# Altium footprint library QFP_Shrink_Sq_40P_Side_L.PcbLib: 26 footprints (part 1 of 3)
Each footprint in its own frame and in the unit in brackets; x right, y up, seen from the top. Pads: shape width x height; smd on the part's side, far side on the other; paste and mask are expansions set on the pad; w line width, h text height; cw(c..) or ccw(c..) is an arc to the next point about the centre after c.
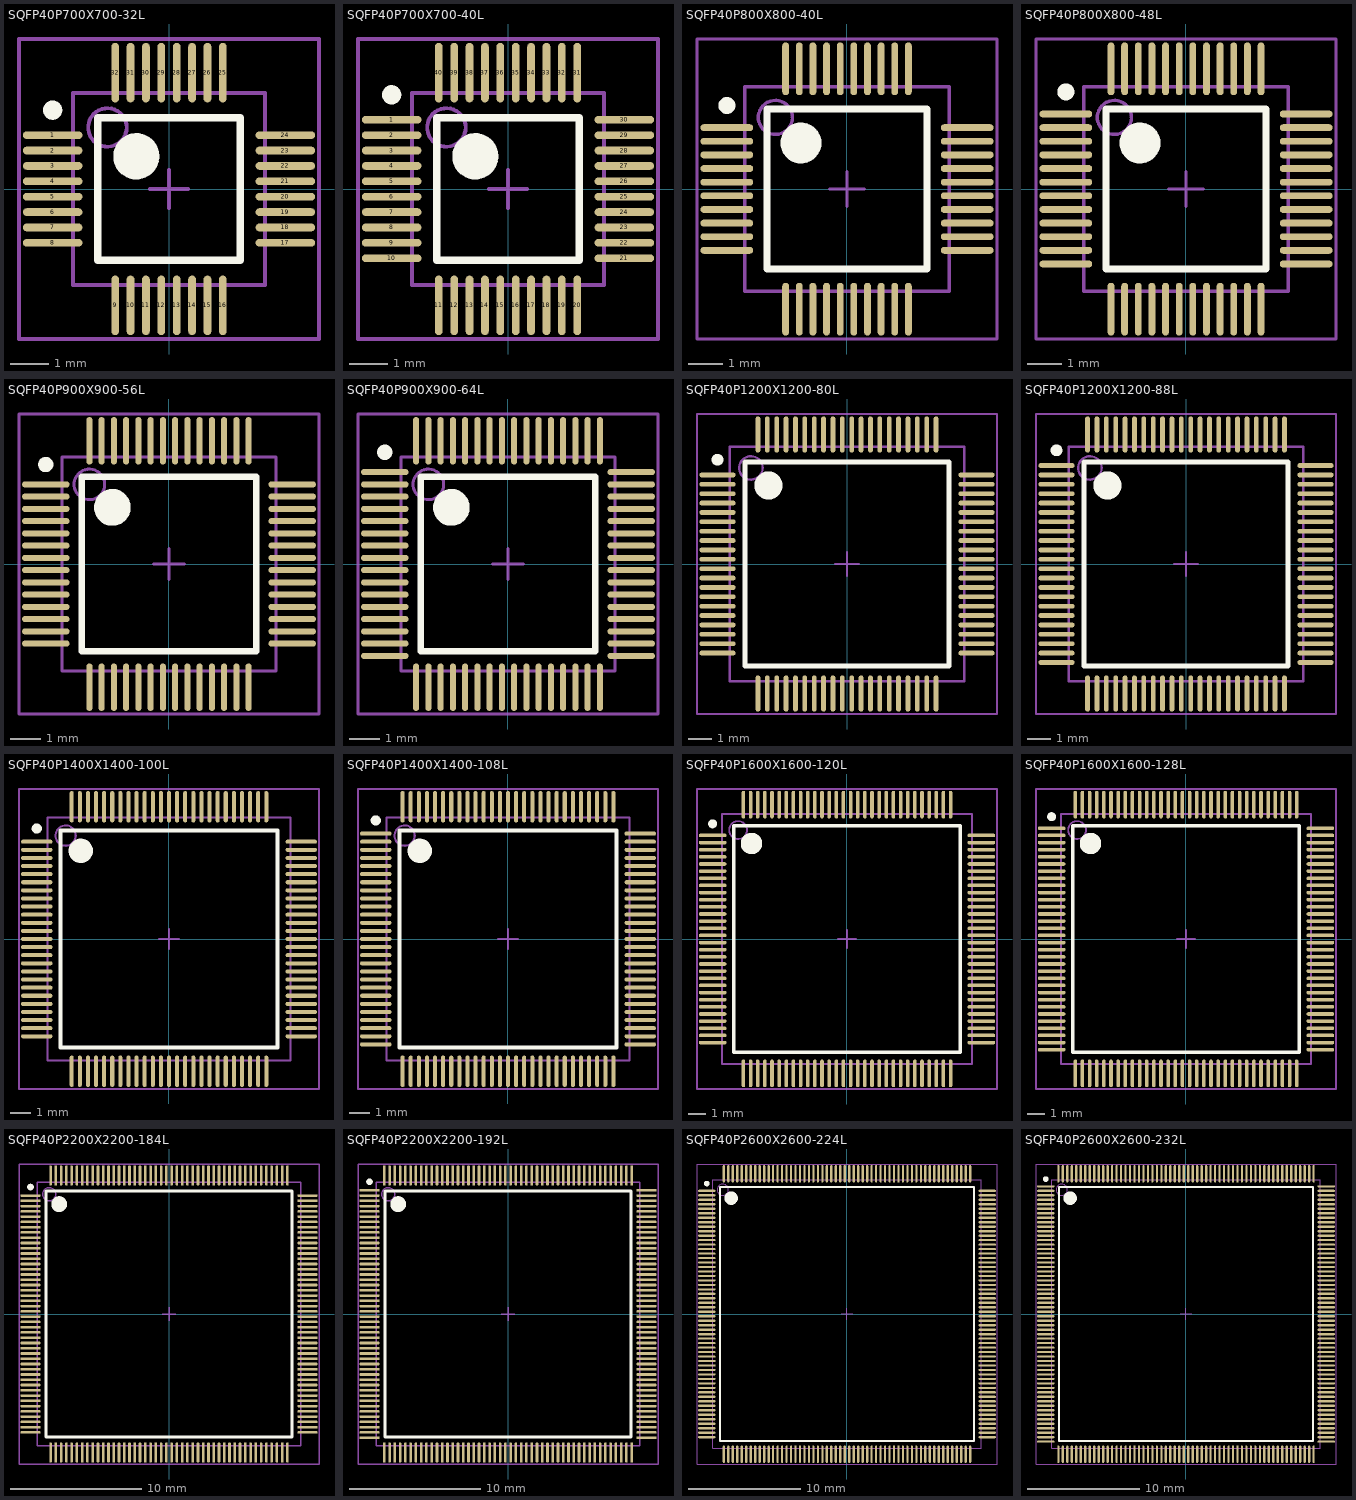
[diagram p0: the footprints below, top view; thin cyan lines are the x and y axes]

## SQFP40P700X700-32L [mm] "Shrink QFP, 32-Leads, Body 5x5mm, Pitch 0.4mm, IPC High Density"
height 1.7
pads (32):
  oval 1.55x0.2 smd: 1(-3.025,1.4) 2(-3.025,1) 3(-3.025,0.6) 4(-3.025,0.2) 5(-3.025,-0.2) 6(-3.025,-0.6) 7(-3.025,-1) 8(-3.025,-1.4) 17(3.025,-1.4) 18(3.025,-1) 19(3.025,-0.6) 20(3.025,-0.2) 21(3.025,0.2) 22(3.025,0.6) 23(3.025,1) 24(3.025,1.4)
  oval 0.2x1.55 smd: 9(-1.4,-3.025) 10(-1,-3.025) 11(-0.6,-3.025) 12(-0.2,-3.025) 13(0.2,-3.025) 14(0.6,-3.025) 15(1,-3.025) 16(1.4,-3.025) 25(1.4,3.025) 26(1,3.025) 27(0.6,3.025) 28(0.2,3.025) 29(-0.2,3.025) 30(-0.6,3.025) 31(-1,3.025) 32(-1.4,3.025)
Top Overlay:
  circle w0.6: c-0.85,0.85 r0.3
  circle w0.25: c-3.025,2.05 r0.125
  lines w0.2: -1.85,-1.85 1.85,-1.85 1.85,1.85 -1.85,1.85 -1.85,-1.85
Mechanical 13:
  circle w0.1: c-1.6,1.6 r0.5
  lines w0.1: -2.5,-2.5 2.5,-2.5 2.5,2.5 -2.5,2.5 -2.5,-2.5
Mechanical 15:
  lines w0.1: -0.5,0 0.5,0 ; 0,-0.5 0,0.5 ; -3.9,-3.9 3.9,-3.9 3.9,3.9 -3.9,3.9 -3.9,-3.9
3D body: height 1.7, standoff 0, extent -2.5,-2.5 2.5,2.5

## SQFP40P700X700-40L [mm] "Shrink QFP, 40-Leads, Body 5x5mm, Pitch 0.4mm, IPC High Density"
height 1.7
pads (40):
  oval 1.55x0.2 smd: 1(-3.025,1.8) 2(-3.025,1.4) 3(-3.025,1) 4(-3.025,0.6) 5(-3.025,0.2) 6(-3.025,-0.2) 7(-3.025,-0.6) 8(-3.025,-1) 9(-3.025,-1.4) 10(-3.025,-1.8) 21(3.025,-1.8) 22(3.025,-1.4) 23(3.025,-1) 24(3.025,-0.6) 25(3.025,-0.2) 26(3.025,0.2) 27(3.025,0.6) 28(3.025,1) 29(3.025,1.4) 30(3.025,1.8)
  oval 0.2x1.55 smd: 11(-1.8,-3.025) 12(-1.4,-3.025) 13(-1,-3.025) 14(-0.6,-3.025) 15(-0.2,-3.025) 16(0.2,-3.025) 17(0.6,-3.025) 18(1,-3.025) 19(1.4,-3.025) 20(1.8,-3.025) 31(1.8,3.025) 32(1.4,3.025) 33(1,3.025) 34(0.6,3.025) 35(0.2,3.025) 36(-0.2,3.025) 37(-0.6,3.025) 38(-1,3.025) 39(-1.4,3.025) 40(-1.8,3.025)
Top Overlay:
  circle w0.6: c-0.85,0.85 r0.3
  circle w0.25: c-3.025,2.45 r0.125
  lines w0.2: -1.85,-1.85 1.85,-1.85 1.85,1.85 -1.85,1.85 -1.85,-1.85
Mechanical 13:
  circle w0.1: c-1.6,1.6 r0.5
  lines w0.1: -2.5,-2.5 2.5,-2.5 2.5,2.5 -2.5,2.5 -2.5,-2.5
Mechanical 15:
  lines w0.1: -0.5,0 0.5,0 ; 0,-0.5 0,0.5 ; -3.9,-3.9 3.9,-3.9 3.9,3.9 -3.9,3.9 -3.9,-3.9
3D body: height 1.7, standoff 0, extent -2.5,-2.5 2.5,2.5

## SQFP40P800X800-40L [mm] "Shrink QFP, 40-Leads, Body 6x6mm, Pitch 0.4mm, IPC High Density"
height 1.7
pads (40):
  oval 1.55x0.2 smd: 1(-3.525,1.8) 2(-3.525,1.4) 3(-3.525,1) 4(-3.525,0.6) 5(-3.525,0.2) 6(-3.525,-0.2) 7(-3.525,-0.6) 8(-3.525,-1) 9(-3.525,-1.4) 10(-3.525,-1.8) 21(3.525,-1.8) 22(3.525,-1.4) 23(3.525,-1) 24(3.525,-0.6) 25(3.525,-0.2) 26(3.525,0.2) 27(3.525,0.6) 28(3.525,1) 29(3.525,1.4) 30(3.525,1.8)
  oval 0.2x1.55 smd: 11(-1.8,-3.525) 12(-1.4,-3.525) 13(-1,-3.525) 14(-0.6,-3.525) 15(-0.2,-3.525) 16(0.2,-3.525) 17(0.6,-3.525) 18(1,-3.525) 19(1.4,-3.525) 20(1.8,-3.525) 31(1.8,3.525) 32(1.4,3.525) 33(1,3.525) 34(0.6,3.525) 35(0.2,3.525) 36(-0.2,3.525) 37(-0.6,3.525) 38(-1,3.525) 39(-1.4,3.525) 40(-1.8,3.525)
Top Overlay:
  circle w0.6: c-1.35,1.35 r0.3
  circle w0.25: c-3.525,2.45 r0.125
  lines w0.2: -2.35,-2.35 2.35,-2.35 2.35,2.35 -2.35,2.35 -2.35,-2.35
Mechanical 13:
  circle w0.1: c-2.1,2.1 r0.5
  lines w0.1: -3,-3 3,-3 3,3 -3,3 -3,-3
Mechanical 15:
  lines w0.1: -0.5,0 0.5,0 ; 0,-0.5 0,0.5 ; -4.4,-4.4 4.4,-4.4 4.4,4.4 -4.4,4.4 -4.4,-4.4
3D body: height 1.7, standoff 0, extent -3,-3 3,3

## SQFP40P800X800-48L [mm] "Shrink QFP, 48-Leads, Body 6x6mm, Pitch 0.4mm, IPC High Density"
height 1.7
pads (48):
  oval 1.55x0.2 smd: 1(-3.525,2.2) 2(-3.525,1.8) 3(-3.525,1.4) 4(-3.525,1) 5(-3.525,0.6) 6(-3.525,0.2) 7(-3.525,-0.2) 8(-3.525,-0.6) 9(-3.525,-1) 10(-3.525,-1.4) 11(-3.525,-1.8) 12(-3.525,-2.2) 25(3.525,-2.2) 26(3.525,-1.8) 27(3.525,-1.4) 28(3.525,-1) 29(3.525,-0.6) 30(3.525,-0.2) 31(3.525,0.2) 32(3.525,0.6) 33(3.525,1) 34(3.525,1.4) 35(3.525,1.8) 36(3.525,2.2)
  oval 0.2x1.55 smd: 13(-2.2,-3.525) 14(-1.8,-3.525) 15(-1.4,-3.525) 16(-1,-3.525) 17(-0.6,-3.525) 18(-0.2,-3.525) 19(0.2,-3.525) 20(0.6,-3.525) 21(1,-3.525) 22(1.4,-3.525) 23(1.8,-3.525) 24(2.2,-3.525) 37(2.2,3.525) 38(1.8,3.525) 39(1.4,3.525) 40(1,3.525) 41(0.6,3.525) 42(0.2,3.525) 43(-0.2,3.525) 44(-0.6,3.525) 45(-1,3.525) 46(-1.4,3.525) 47(-1.8,3.525) 48(-2.2,3.525)
Top Overlay:
  circle w0.6: c-1.35,1.35 r0.3
  circle w0.25: c-3.525,2.85 r0.125
  lines w0.2: -2.35,-2.35 2.35,-2.35 2.35,2.35 -2.35,2.35 -2.35,-2.35
Mechanical 13:
  circle w0.1: c-2.1,2.1 r0.5
  lines w0.1: -3,-3 3,-3 3,3 -3,3 -3,-3
Mechanical 15:
  lines w0.1: -0.5,0 0.5,0 ; 0,-0.5 0,0.5 ; -4.4,-4.4 4.4,-4.4 4.4,4.4 -4.4,4.4 -4.4,-4.4
3D body: height 1.7, standoff 0, extent -3,-3 3,3

## SQFP40P900X900-56L [mm] "Shrink QFP, 56-Leads, Body 7x7mm, Pitch 0.4mm, IPC High Density"
height 1.7
pads (56):
  oval 1.55x0.2 smd: 1(-4.025,2.6) 2(-4.025,2.2) 3(-4.025,1.8) 4(-4.025,1.4) 5(-4.025,1) 6(-4.025,0.6) 7(-4.025,0.2) 8(-4.025,-0.2) 9(-4.025,-0.6) 10(-4.025,-1) 11(-4.025,-1.4) 12(-4.025,-1.8) 13(-4.025,-2.2) 14(-4.025,-2.6) 29(4.025,-2.6) 30(4.025,-2.2) 31(4.025,-1.8) 32(4.025,-1.4) 33(4.025,-1) 34(4.025,-0.6) 35(4.025,-0.2) 36(4.025,0.2) 37(4.025,0.6) 38(4.025,1) 39(4.025,1.4) 40(4.025,1.8) 41(4.025,2.2) 42(4.025,2.6)
  oval 0.2x1.55 smd: 15(-2.6,-4.025) 16(-2.2,-4.025) 17(-1.8,-4.025) 18(-1.4,-4.025) 19(-1,-4.025) 20(-0.6,-4.025) 21(-0.2,-4.025) 22(0.2,-4.025) 23(0.6,-4.025) 24(1,-4.025) 25(1.4,-4.025) 26(1.8,-4.025) 27(2.2,-4.025) 28(2.6,-4.025) 43(2.6,4.025) 44(2.2,4.025) 45(1.8,4.025) 46(1.4,4.025) 47(1,4.025) 48(0.6,4.025) 49(0.2,4.025) 50(-0.2,4.025) 51(-0.6,4.025) 52(-1,4.025) 53(-1.4,4.025) 54(-1.8,4.025) 55(-2.2,4.025) 56(-2.6,4.025)
Top Overlay:
  circle w0.6: c-1.85,1.85 r0.3
  circle w0.25: c-4.025,3.25 r0.125
  lines w0.2: -2.85,-2.85 2.85,-2.85 2.85,2.85 -2.85,2.85 -2.85,-2.85
Mechanical 13:
  circle w0.1: c-2.6,2.6 r0.5
  lines w0.1: -3.5,-3.5 3.5,-3.5 3.5,3.5 -3.5,3.5 -3.5,-3.5
Mechanical 15:
  lines w0.1: -0.5,0 0.5,0 ; 0,-0.5 0,0.5 ; -4.9,-4.9 4.9,-4.9 4.9,4.9 -4.9,4.9 -4.9,-4.9
3D body: height 1.7, standoff 0, extent -3.5,-3.5 3.5,3.5

## SQFP40P900X900-64L [mm] "Shrink QFP, 64-Leads, Body 7x7mm, Pitch 0.4mm, IPC High Density"
height 1.7
pads (64):
  oval 1.55x0.2 smd: 1(-4.025,3) 2(-4.025,2.6) 3(-4.025,2.2) 4(-4.025,1.8) 5(-4.025,1.4) 6(-4.025,1) 7(-4.025,0.6) 8(-4.025,0.2) 9(-4.025,-0.2) 10(-4.025,-0.6) 11(-4.025,-1) 12(-4.025,-1.4) 13(-4.025,-1.8) 14(-4.025,-2.2) 15(-4.025,-2.6) 16(-4.025,-3) 33(4.025,-3) 34(4.025,-2.6) 35(4.025,-2.2) 36(4.025,-1.8) 37(4.025,-1.4) 38(4.025,-1) 39(4.025,-0.6) 40(4.025,-0.2) 41(4.025,0.2) 42(4.025,0.6) 43(4.025,1) 44(4.025,1.4) 45(4.025,1.8) 46(4.025,2.2) 47(4.025,2.6) 48(4.025,3)
  oval 0.2x1.55 smd: 17(-3,-4.025) 18(-2.6,-4.025) 19(-2.2,-4.025) 20(-1.8,-4.025) 21(-1.4,-4.025) 22(-1,-4.025) 23(-0.6,-4.025) 24(-0.2,-4.025) 25(0.2,-4.025) 26(0.6,-4.025) 27(1,-4.025) 28(1.4,-4.025) 29(1.8,-4.025) 30(2.2,-4.025) 31(2.6,-4.025) 32(3,-4.025) 49(3,4.025) 50(2.6,4.025) 51(2.2,4.025) 52(1.8,4.025) 53(1.4,4.025) 54(1,4.025) 55(0.6,4.025) 56(0.2,4.025) 57(-0.2,4.025) 58(-0.6,4.025) 59(-1,4.025) 60(-1.4,4.025) 61(-1.8,4.025) 62(-2.2,4.025) 63(-2.6,4.025) 64(-3,4.025)
Top Overlay:
  circle w0.6: c-1.85,1.85 r0.3
  circle w0.25: c-4.025,3.65 r0.125
  lines w0.2: -2.85,-2.85 2.85,-2.85 2.85,2.85 -2.85,2.85 -2.85,-2.85
Mechanical 13:
  circle w0.1: c-2.6,2.6 r0.5
  lines w0.1: -3.5,-3.5 3.5,-3.5 3.5,3.5 -3.5,3.5 -3.5,-3.5
Mechanical 15:
  lines w0.1: -0.5,0 0.5,0 ; 0,-0.5 0,0.5 ; -4.9,-4.9 4.9,-4.9 4.9,4.9 -4.9,4.9 -4.9,-4.9
3D body: height 1.7, standoff 0, extent -3.5,-3.5 3.5,3.5

## SQFP40P1200X1200-80L [mm] "Shrink QFP, 80-Leads, Body 10x10mm, Pitch 0.4mm, IPC High Density"
height 2.2
pads (80):
  oval 1.55x0.2 smd: 1(-5.525,3.8) 2(-5.525,3.4) 3(-5.525,3) 4(-5.525,2.6) 5(-5.525,2.2) 6(-5.525,1.8) 7(-5.525,1.4) 8(-5.525,1) 9(-5.525,0.6) 10(-5.525,0.2) 11(-5.525,-0.2) 12(-5.525,-0.6) 13(-5.525,-1) 14(-5.525,-1.4) 15(-5.525,-1.8) 16(-5.525,-2.2) 17(-5.525,-2.6) 18(-5.525,-3) 19(-5.525,-3.4) 20(-5.525,-3.8) 41(5.525,-3.8) 42(5.525,-3.4) 43(5.525,-3) 44(5.525,-2.6) 45(5.525,-2.2) 46(5.525,-1.8) 47(5.525,-1.4) 48(5.525,-1) 49(5.525,-0.6) 50(5.525,-0.2) 51(5.525,0.2) 52(5.525,0.6) 53(5.525,1) 54(5.525,1.4) 55(5.525,1.8) 56(5.525,2.2) 57(5.525,2.6) 58(5.525,3) 59(5.525,3.4) 60(5.525,3.8)
  oval 0.2x1.55 smd: 21(-3.8,-5.525) 22(-3.4,-5.525) 23(-3,-5.525) 24(-2.6,-5.525) 25(-2.2,-5.525) 26(-1.8,-5.525) 27(-1.4,-5.525) 28(-1,-5.525) 29(-0.6,-5.525) 30(-0.2,-5.525) 31(0.2,-5.525) 32(0.6,-5.525) 33(1,-5.525) 34(1.4,-5.525) 35(1.8,-5.525) 36(2.2,-5.525) 37(2.6,-5.525) 38(3,-5.525) 39(3.4,-5.525) 40(3.8,-5.525) 61(3.8,5.525) 62(3.4,5.525) 63(3,5.525) 64(2.6,5.525) 65(2.2,5.525) 66(1.8,5.525) 67(1.4,5.525) 68(1,5.525) 69(0.6,5.525) 70(0.2,5.525) 71(-0.2,5.525) 72(-0.6,5.525) 73(-1,5.525) 74(-1.4,5.525) 75(-1.8,5.525) 76(-2.2,5.525) 77(-2.6,5.525) 78(-3,5.525) 79(-3.4,5.525) 80(-3.8,5.525)
Top Overlay:
  circle w0.6: c-3.35,3.35 r0.3
  circle w0.25: c-5.525,4.45 r0.125
  lines w0.2: -4.35,-4.35 4.35,-4.35 4.35,4.35 -4.35,4.35 -4.35,-4.35
Mechanical 13:
  circle w0.1: c-4.1,4.1 r0.5
  lines w0.1: -5,-5 5,-5 5,5 -5,5 -5,-5
Mechanical 15:
  lines w0.1: -0.5,0 0.5,0 ; 0,-0.5 0,0.5 ; -6.4,-6.4 6.4,-6.4 6.4,6.4 -6.4,6.4 -6.4,-6.4
3D body: height 2.2, standoff 0, extent -5,-5 5,5

## SQFP40P1200X1200-88L [mm] "Shrink QFP, 88-Leads, Body 10x10mm, Pitch 0.4mm, IPC High Density"
height 2.2
pads (88):
  oval 1.55x0.2 smd: 1(-5.525,4.2) 2(-5.525,3.8) 3(-5.525,3.4) 4(-5.525,3) 5(-5.525,2.6) 6(-5.525,2.2) 7(-5.525,1.8) 8(-5.525,1.4) 9(-5.525,1) 10(-5.525,0.6) 11(-5.525,0.2) 12(-5.525,-0.2) 13(-5.525,-0.6) 14(-5.525,-1) 15(-5.525,-1.4) 16(-5.525,-1.8) 17(-5.525,-2.2) 18(-5.525,-2.6) 19(-5.525,-3) 20(-5.525,-3.4) 21(-5.525,-3.8) 22(-5.525,-4.2) 45(5.525,-4.2) 46(5.525,-3.8) 47(5.525,-3.4) 48(5.525,-3) 49(5.525,-2.6) 50(5.525,-2.2) 51(5.525,-1.8) 52(5.525,-1.4) 53(5.525,-1) 54(5.525,-0.6) 55(5.525,-0.2) 56(5.525,0.2) 57(5.525,0.6) 58(5.525,1) 59(5.525,1.4) 60(5.525,1.8) 61(5.525,2.2) 62(5.525,2.6) 63(5.525,3) 64(5.525,3.4) 65(5.525,3.8) 66(5.525,4.2)
  oval 0.2x1.55 smd: 23(-4.2,-5.525) 24(-3.8,-5.525) 25(-3.4,-5.525) 26(-3,-5.525) 27(-2.6,-5.525) 28(-2.2,-5.525) 29(-1.8,-5.525) 30(-1.4,-5.525) 31(-1,-5.525) 32(-0.6,-5.525) 33(-0.2,-5.525) 34(0.2,-5.525) 35(0.6,-5.525) 36(1,-5.525) 37(1.4,-5.525) 38(1.8,-5.525) 39(2.2,-5.525) 40(2.6,-5.525) 41(3,-5.525) 42(3.4,-5.525) 43(3.8,-5.525) 44(4.2,-5.525) 67(4.2,5.525) 68(3.8,5.525) 69(3.4,5.525) 70(3,5.525) 71(2.6,5.525) 72(2.2,5.525) 73(1.8,5.525) 74(1.4,5.525) 75(1,5.525) 76(0.6,5.525) 77(0.2,5.525) 78(-0.2,5.525) 79(-0.6,5.525) 80(-1,5.525) 81(-1.4,5.525) 82(-1.8,5.525) 83(-2.2,5.525) 84(-2.6,5.525) 85(-3,5.525) 86(-3.4,5.525) 87(-3.8,5.525) 88(-4.2,5.525)
Top Overlay:
  circle w0.6: c-3.35,3.35 r0.3
  circle w0.25: c-5.525,4.85 r0.125
  lines w0.2: -4.35,-4.35 4.35,-4.35 4.35,4.35 -4.35,4.35 -4.35,-4.35
Mechanical 13:
  circle w0.1: c-4.1,4.1 r0.5
  lines w0.1: -5,-5 5,-5 5,5 -5,5 -5,-5
Mechanical 15:
  lines w0.1: -0.5,0 0.5,0 ; 0,-0.5 0,0.5 ; -6.4,-6.4 6.4,-6.4 6.4,6.4 -6.4,6.4 -6.4,-6.4
3D body: height 2.2, standoff 0, extent -5,-5 5,5

## SQFP40P1400X1400-100L [mm] "Shrink QFP, 100-Leads, Body 12x12mm, Pitch 0.4mm, IPC High Density"
height 2.2
pads (100):
  oval 1.55x0.2 smd: 1(-6.525,4.8) 2(-6.525,4.4) 3(-6.525,4) 4(-6.525,3.6) 5(-6.525,3.2) 6(-6.525,2.8) 7(-6.525,2.4) 8(-6.525,2) 9(-6.525,1.6) 10(-6.525,1.2) 11(-6.525,0.8) 12(-6.525,0.4) 13(-6.525,0) 14(-6.525,-0.4) 15(-6.525,-0.8) 16(-6.525,-1.2) 17(-6.525,-1.6) 18(-6.525,-2) 19(-6.525,-2.4) 20(-6.525,-2.8) 21(-6.525,-3.2) 22(-6.525,-3.6) 23(-6.525,-4) 24(-6.525,-4.4) 25(-6.525,-4.8) 51(6.525,-4.8) 52(6.525,-4.4) 53(6.525,-4) 54(6.525,-3.6) 55(6.525,-3.2) 56(6.525,-2.8) 57(6.525,-2.4) 58(6.525,-2) 59(6.525,-1.6) 60(6.525,-1.2) 61(6.525,-0.8) 62(6.525,-0.4) 63(6.525,0) 64(6.525,0.4) 65(6.525,0.8) 66(6.525,1.2) 67(6.525,1.6) 68(6.525,2) 69(6.525,2.4) 70(6.525,2.8) 71(6.525,3.2) 72(6.525,3.6) 73(6.525,4) 74(6.525,4.4) 75(6.525,4.8)
  oval 0.2x1.55 smd: 26(-4.8,-6.525) 27(-4.4,-6.525) 28(-4,-6.525) 29(-3.6,-6.525) 30(-3.2,-6.525) 31(-2.8,-6.525) 32(-2.4,-6.525) 33(-2,-6.525) 34(-1.6,-6.525) 35(-1.2,-6.525) 36(-0.8,-6.525) 37(-0.4,-6.525) 38(0,-6.525) 39(0.4,-6.525) 40(0.8,-6.525) 41(1.2,-6.525) 42(1.6,-6.525) 43(2,-6.525) 44(2.4,-6.525) 45(2.8,-6.525) 46(3.2,-6.525) 47(3.6,-6.525) 48(4,-6.525) 49(4.4,-6.525) 50(4.8,-6.525) 76(4.8,6.525) 77(4.4,6.525) 78(4,6.525) 79(3.6,6.525) 80(3.2,6.525) 81(2.8,6.525) 82(2.4,6.525) 83(2,6.525) 84(1.6,6.525) 85(1.2,6.525) 86(0.8,6.525) 87(0.4,6.525) 88(0,6.525) 89(-0.4,6.525) 90(-0.8,6.525) 91(-1.2,6.525) 92(-1.6,6.525) 93(-2,6.525) 94(-2.4,6.525) 95(-2.8,6.525) 96(-3.2,6.525) 97(-3.6,6.525) 98(-4,6.525) 99(-4.4,6.525) 100(-4.8,6.525)
Top Overlay:
  circle w0.6: c-4.35,4.35 r0.3
  circle w0.25: c-6.525,5.45 r0.125
  lines w0.2: -5.35,-5.35 5.35,-5.35 5.35,5.35 -5.35,5.35 -5.35,-5.35
Mechanical 13:
  circle w0.1: c-5.1,5.1 r0.5
  lines w0.1: -6,-6 6,-6 6,6 -6,6 -6,-6
Mechanical 15:
  lines w0.1: -0.5,0 0.5,0 ; 0,-0.5 0,0.5 ; -7.4,-7.4 7.4,-7.4 7.4,7.4 -7.4,7.4 -7.4,-7.4
3D body: height 2.2, standoff 0, extent -6,-6 6,6

## SQFP40P1400X1400-108L [mm] "Shrink QFP, 108-Leads, Body 12x12mm, Pitch 0.4mm, IPC High Density"
height 2.2
pads (108):
  oval 1.55x0.2 smd: 1(-6.525,5.2) 2(-6.525,4.8) 3(-6.525,4.4) 4(-6.525,4) 5(-6.525,3.6) 6(-6.525,3.2) 7(-6.525,2.8) 8(-6.525,2.4) 9(-6.525,2) 10(-6.525,1.6) 11(-6.525,1.2) 12(-6.525,0.8) 13(-6.525,0.4) 14(-6.525,0) 15(-6.525,-0.4) 16(-6.525,-0.8) 17(-6.525,-1.2) 18(-6.525,-1.6) 19(-6.525,-2) 20(-6.525,-2.4) 21(-6.525,-2.8) 22(-6.525,-3.2) 23(-6.525,-3.6) 24(-6.525,-4) 25(-6.525,-4.4) 26(-6.525,-4.8) 27(-6.525,-5.2) 55(6.525,-5.2) 56(6.525,-4.8) 57(6.525,-4.4) 58(6.525,-4) 59(6.525,-3.6) 60(6.525,-3.2) 61(6.525,-2.8) 62(6.525,-2.4) 63(6.525,-2) 64(6.525,-1.6) 65(6.525,-1.2) 66(6.525,-0.8) 67(6.525,-0.4) 68(6.525,0) 69(6.525,0.4) 70(6.525,0.8) 71(6.525,1.2) 72(6.525,1.6) 73(6.525,2) 74(6.525,2.4) 75(6.525,2.8) 76(6.525,3.2) 77(6.525,3.6) 78(6.525,4) 79(6.525,4.4) 80(6.525,4.8) 81(6.525,5.2)
  oval 0.2x1.55 smd: 28(-5.2,-6.525) 29(-4.8,-6.525) 30(-4.4,-6.525) 31(-4,-6.525) 32(-3.6,-6.525) 33(-3.2,-6.525) 34(-2.8,-6.525) 35(-2.4,-6.525) 36(-2,-6.525) 37(-1.6,-6.525) 38(-1.2,-6.525) 39(-0.8,-6.525) 40(-0.4,-6.525) 41(0,-6.525) 42(0.4,-6.525) 43(0.8,-6.525) 44(1.2,-6.525) 45(1.6,-6.525) 46(2,-6.525) 47(2.4,-6.525) 48(2.8,-6.525) 49(3.2,-6.525) 50(3.6,-6.525) 51(4,-6.525) 52(4.4,-6.525) 53(4.8,-6.525) 54(5.2,-6.525) 82(5.2,6.525) 83(4.8,6.525) 84(4.4,6.525) 85(4,6.525) 86(3.6,6.525) 87(3.2,6.525) 88(2.8,6.525) 89(2.4,6.525) 90(2,6.525) 91(1.6,6.525) 92(1.2,6.525) 93(0.8,6.525) 94(0.4,6.525) 95(0,6.525) 96(-0.4,6.525) 97(-0.8,6.525) 98(-1.2,6.525) 99(-1.6,6.525) 100(-2,6.525) 101(-2.4,6.525) 102(-2.8,6.525) 103(-3.2,6.525) 104(-3.6,6.525) 105(-4,6.525) 106(-4.4,6.525) 107(-4.8,6.525) 108(-5.2,6.525)
Top Overlay:
  circle w0.6: c-4.35,4.35 r0.3
  circle w0.25: c-6.525,5.85 r0.125
  lines w0.2: -5.35,-5.35 5.35,-5.35 5.35,5.35 -5.35,5.35 -5.35,-5.35
Mechanical 13:
  circle w0.1: c-5.1,5.1 r0.5
  lines w0.1: -6,-6 6,-6 6,6 -6,6 -6,-6
Mechanical 15:
  lines w0.1: -0.5,0 0.5,0 ; 0,-0.5 0,0.5 ; -7.4,-7.4 7.4,-7.4 7.4,7.4 -7.4,7.4 -7.4,-7.4
3D body: height 2.2, standoff 0, extent -6,-6 6,6

## SQFP40P1600X1600-120L [mm] "Shrink QFP, 120-Leads, Body 14x14mm, Pitch 0.4mm, IPC High Density"
height 2.2
pads (120):
  oval 1.55x0.2 smd: 1(-7.525,5.8) 2(-7.525,5.4) 3(-7.525,5) 4(-7.525,4.6) 5(-7.525,4.2) 6(-7.525,3.8) 7(-7.525,3.4) 8(-7.525,3) 9(-7.525,2.6) 10(-7.525,2.2) 11(-7.525,1.8) 12(-7.525,1.4) 13(-7.525,1) 14(-7.525,0.6) 15(-7.525,0.2) 16(-7.525,-0.2) 17(-7.525,-0.6) 18(-7.525,-1) 19(-7.525,-1.4) 20(-7.525,-1.8) 21(-7.525,-2.2) 22(-7.525,-2.6) 23(-7.525,-3) 24(-7.525,-3.4) 25(-7.525,-3.8) 26(-7.525,-4.2) 27(-7.525,-4.6) 28(-7.525,-5) 29(-7.525,-5.4) 30(-7.525,-5.8) 61(7.525,-5.8) 62(7.525,-5.4) 63(7.525,-5) 64(7.525,-4.6) 65(7.525,-4.2) 66(7.525,-3.8) 67(7.525,-3.4) 68(7.525,-3) 69(7.525,-2.6) 70(7.525,-2.2) 71(7.525,-1.8) 72(7.525,-1.4) 73(7.525,-1) 74(7.525,-0.6) 75(7.525,-0.2) 76(7.525,0.2) 77(7.525,0.6) 78(7.525,1) 79(7.525,1.4) 80(7.525,1.8) 81(7.525,2.2) 82(7.525,2.6) 83(7.525,3) 84(7.525,3.4) 85(7.525,3.8) 86(7.525,4.2) 87(7.525,4.6) 88(7.525,5) 89(7.525,5.4) 90(7.525,5.8)
  oval 0.2x1.55 smd: 31(-5.8,-7.525) 32(-5.4,-7.525) 33(-5,-7.525) 34(-4.6,-7.525) 35(-4.2,-7.525) 36(-3.8,-7.525) 37(-3.4,-7.525) 38(-3,-7.525) 39(-2.6,-7.525) 40(-2.2,-7.525) 41(-1.8,-7.525) 42(-1.4,-7.525) 43(-1,-7.525) 44(-0.6,-7.525) 45(-0.2,-7.525) 46(0.2,-7.525) 47(0.6,-7.525) 48(1,-7.525) 49(1.4,-7.525) 50(1.8,-7.525) 51(2.2,-7.525) 52(2.6,-7.525) 53(3,-7.525) 54(3.4,-7.525) 55(3.8,-7.525) 56(4.2,-7.525) 57(4.6,-7.525) 58(5,-7.525) 59(5.4,-7.525) 60(5.8,-7.525) 91(5.8,7.525) 92(5.4,7.525) 93(5,7.525) 94(4.6,7.525) 95(4.2,7.525) 96(3.8,7.525) 97(3.4,7.525) 98(3,7.525) 99(2.6,7.525) 100(2.2,7.525) 101(1.8,7.525) 102(1.4,7.525) 103(1,7.525) 104(0.6,7.525) 105(0.2,7.525) 106(-0.2,7.525) 107(-0.6,7.525) 108(-1,7.525) 109(-1.4,7.525) 110(-1.8,7.525) 111(-2.2,7.525) 112(-2.6,7.525) 113(-3,7.525) 114(-3.4,7.525) 115(-3.8,7.525) 116(-4.2,7.525) 117(-4.6,7.525) 118(-5,7.525) 119(-5.4,7.525) 120(-5.8,7.525)
Top Overlay:
  circle w0.6: c-5.35,5.35 r0.3
  circle w0.25: c-7.525,6.45 r0.125
  lines w0.2: -6.35,-6.35 6.35,-6.35 6.35,6.35 -6.35,6.35 -6.35,-6.35
Mechanical 13:
  circle w0.1: c-6.1,6.1 r0.5
  lines w0.1: -7,-7 7,-7 7,7 -7,7 -7,-7
Mechanical 15:
  lines w0.1: -0.5,0 0.5,0 ; 0,-0.5 0,0.5 ; -8.4,-8.4 8.4,-8.4 8.4,8.4 -8.4,8.4 -8.4,-8.4
3D body: height 2.2, standoff 0, extent -7,-7 7,7

## SQFP40P1600X1600-128L [mm] "Shrink QFP, 128-Leads, Body 14x14mm, Pitch 0.4mm, IPC High Density"
height 2.2
pads (128):
  oval 1.55x0.2 smd: 1(-7.525,6.2) 2(-7.525,5.8) 3(-7.525,5.4) 4(-7.525,5) 5(-7.525,4.6) 6(-7.525,4.2) 7(-7.525,3.8) 8(-7.525,3.4) 9(-7.525,3) 10(-7.525,2.6) 11(-7.525,2.2) 12(-7.525,1.8) 13(-7.525,1.4) 14(-7.525,1) 15(-7.525,0.6) 16(-7.525,0.2) 17(-7.525,-0.2) 18(-7.525,-0.6) 19(-7.525,-1) 20(-7.525,-1.4) 21(-7.525,-1.8) 22(-7.525,-2.2) 23(-7.525,-2.6) 24(-7.525,-3) 25(-7.525,-3.4) 26(-7.525,-3.8) 27(-7.525,-4.2) 28(-7.525,-4.6) 29(-7.525,-5) 30(-7.525,-5.4) 31(-7.525,-5.8) 32(-7.525,-6.2) 65(7.525,-6.2) 66(7.525,-5.8) 67(7.525,-5.4) 68(7.525,-5) 69(7.525,-4.6) 70(7.525,-4.2) 71(7.525,-3.8) 72(7.525,-3.4) 73(7.525,-3) 74(7.525,-2.6) 75(7.525,-2.2) 76(7.525,-1.8) 77(7.525,-1.4) 78(7.525,-1) 79(7.525,-0.6) 80(7.525,-0.2) 81(7.525,0.2) 82(7.525,0.6) 83(7.525,1) 84(7.525,1.4) 85(7.525,1.8) 86(7.525,2.2) 87(7.525,2.6) 88(7.525,3) 89(7.525,3.4) 90(7.525,3.8) 91(7.525,4.2) 92(7.525,4.6) 93(7.525,5) 94(7.525,5.4) 95(7.525,5.8) 96(7.525,6.2)
  oval 0.2x1.55 smd: 33(-6.2,-7.525) 34(-5.8,-7.525) 35(-5.4,-7.525) 36(-5,-7.525) 37(-4.6,-7.525) 38(-4.2,-7.525) 39(-3.8,-7.525) 40(-3.4,-7.525) 41(-3,-7.525) 42(-2.6,-7.525) 43(-2.2,-7.525) 44(-1.8,-7.525) 45(-1.4,-7.525) 46(-1,-7.525) 47(-0.6,-7.525) 48(-0.2,-7.525) 49(0.2,-7.525) 50(0.6,-7.525) 51(1,-7.525) 52(1.4,-7.525) 53(1.8,-7.525) 54(2.2,-7.525) 55(2.6,-7.525) 56(3,-7.525) 57(3.4,-7.525) 58(3.8,-7.525) 59(4.2,-7.525) 60(4.6,-7.525) 61(5,-7.525) 62(5.4,-7.525) 63(5.8,-7.525) 64(6.2,-7.525) 97(6.2,7.525) 98(5.8,7.525) 99(5.4,7.525) 100(5,7.525) 101(4.6,7.525) 102(4.2,7.525) 103(3.8,7.525) 104(3.4,7.525) 105(3,7.525) 106(2.6,7.525) 107(2.2,7.525) 108(1.8,7.525) 109(1.4,7.525) 110(1,7.525) 111(0.6,7.525) 112(0.2,7.525) 113(-0.2,7.525) 114(-0.6,7.525) 115(-1,7.525) 116(-1.4,7.525) 117(-1.8,7.525) 118(-2.2,7.525) 119(-2.6,7.525) 120(-3,7.525) 121(-3.4,7.525) 122(-3.8,7.525) 123(-4.2,7.525) 124(-4.6,7.525) 125(-5,7.525) 126(-5.4,7.525) 127(-5.8,7.525) 128(-6.2,7.525)
Top Overlay:
  circle w0.6: c-5.35,5.35 r0.3
  circle w0.25: c-7.525,6.85 r0.125
  lines w0.2: -6.35,-6.35 6.35,-6.35 6.35,6.35 -6.35,6.35 -6.35,-6.35
Mechanical 13:
  circle w0.1: c-6.1,6.1 r0.5
  lines w0.1: -7,-7 7,-7 7,7 -7,7 -7,-7
Mechanical 15:
  lines w0.1: -0.5,0 0.5,0 ; 0,-0.5 0,0.5 ; -8.4,-8.4 8.4,-8.4 8.4,8.4 -8.4,8.4 -8.4,-8.4
3D body: height 2.2, standoff 0, extent -7,-7 7,7

## SQFP40P2200X2200-184L [mm] "Shrink QFP, 184-Leads, Body 20x20mm, Pitch 0.4mm, IPC High Density"
height 2.7
pads (184):
  oval 1.55x0.2 smd: 1(-10.525,9) 2(-10.525,8.6) 3(-10.525,8.2) 4(-10.525,7.8) 5(-10.525,7.4) 6(-10.525,7) 7(-10.525,6.6) 8(-10.525,6.2) 9(-10.525,5.8) 10(-10.525,5.4) 11(-10.525,5) 12(-10.525,4.6) 13(-10.525,4.2) 14(-10.525,3.8) 15(-10.525,3.4) 16(-10.525,3) 17(-10.525,2.6) 18(-10.525,2.2) 19(-10.525,1.8) 20(-10.525,1.4) 21(-10.525,1) 22(-10.525,0.6) 23(-10.525,0.2) 24(-10.525,-0.2) 25(-10.525,-0.6) 26(-10.525,-1) 27(-10.525,-1.4) 28(-10.525,-1.8) 29(-10.525,-2.2) 30(-10.525,-2.6) 31(-10.525,-3) 32(-10.525,-3.4) 33(-10.525,-3.8) 34(-10.525,-4.2) 35(-10.525,-4.6) 36(-10.525,-5) 37(-10.525,-5.4) 38(-10.525,-5.8) 39(-10.525,-6.2) 40(-10.525,-6.6) 41(-10.525,-7) 42(-10.525,-7.4) 43(-10.525,-7.8) 44(-10.525,-8.2) 45(-10.525,-8.6) 46(-10.525,-9) 93(10.525,-9) 94(10.525,-8.6) 95(10.525,-8.2) 96(10.525,-7.8) 97(10.525,-7.4) 98(10.525,-7) 99(10.525,-6.6) 100(10.525,-6.2) 101(10.525,-5.8) 102(10.525,-5.4) 103(10.525,-5) 104(10.525,-4.6) 105(10.525,-4.2) 106(10.525,-3.8) 107(10.525,-3.4) 108(10.525,-3) 109(10.525,-2.6) 110(10.525,-2.2) 111(10.525,-1.8) 112(10.525,-1.4) 113(10.525,-1) 114(10.525,-0.6) 115(10.525,-0.2) 116(10.525,0.2) 117(10.525,0.6) 118(10.525,1) 119(10.525,1.4) 120(10.525,1.8) 121(10.525,2.2) 122(10.525,2.6) 123(10.525,3) 124(10.525,3.4) 125(10.525,3.8) 126(10.525,4.2) 127(10.525,4.6) 128(10.525,5) 129(10.525,5.4) 130(10.525,5.8) 131(10.525,6.2) 132(10.525,6.6) 133(10.525,7) 134(10.525,7.4) 135(10.525,7.8) 136(10.525,8.2) 137(10.525,8.6) 138(10.525,9)
  oval 0.2x1.55 smd: 47(-9,-10.525) 48(-8.6,-10.525) 49(-8.2,-10.525) 50(-7.8,-10.525) 51(-7.4,-10.525) 52(-7,-10.525) 53(-6.6,-10.525) 54(-6.2,-10.525) 55(-5.8,-10.525) 56(-5.4,-10.525) 57(-5,-10.525) 58(-4.6,-10.525) 59(-4.2,-10.525) 60(-3.8,-10.525) 61(-3.4,-10.525) 62(-3,-10.525) 63(-2.6,-10.525) 64(-2.2,-10.525) 65(-1.8,-10.525) 66(-1.4,-10.525) 67(-1,-10.525) 68(-0.6,-10.525) 69(-0.2,-10.525) 70(0.2,-10.525) 71(0.6,-10.525) 72(1,-10.525) 73(1.4,-10.525) 74(1.8,-10.525) 75(2.2,-10.525) 76(2.6,-10.525) 77(3,-10.525) 78(3.4,-10.525) 79(3.8,-10.525) 80(4.2,-10.525) 81(4.6,-10.525) 82(5,-10.525) 83(5.4,-10.525) 84(5.8,-10.525) 85(6.2,-10.525) 86(6.6,-10.525) 87(7,-10.525) 88(7.4,-10.525) 89(7.8,-10.525) 90(8.2,-10.525) 91(8.6,-10.525) 92(9,-10.525) 139(9,10.525) 140(8.6,10.525) 141(8.2,10.525) 142(7.8,10.525) 143(7.4,10.525) 144(7,10.525) 145(6.6,10.525) 146(6.2,10.525) 147(5.8,10.525) 148(5.4,10.525) 149(5,10.525) 150(4.6,10.525) 151(4.2,10.525) 152(3.8,10.525) 153(3.4,10.525) 154(3,10.525) 155(2.6,10.525) 156(2.2,10.525) 157(1.8,10.525) 158(1.4,10.525) 159(1,10.525) 160(0.6,10.525) 161(0.2,10.525) 162(-0.2,10.525) 163(-0.6,10.525) 164(-1,10.525) 165(-1.4,10.525) 166(-1.8,10.525) 167(-2.2,10.525) 168(-2.6,10.525) 169(-3,10.525) 170(-3.4,10.525) 171(-3.8,10.525) 172(-4.2,10.525) 173(-4.6,10.525) 174(-5,10.525) 175(-5.4,10.525) 176(-5.8,10.525) 177(-6.2,10.525) 178(-6.6,10.525) 179(-7,10.525) 180(-7.4,10.525) 181(-7.8,10.525) 182(-8.2,10.525) 183(-8.6,10.525) 184(-9,10.525)
Top Overlay:
  circle w0.6: c-8.35,8.35 r0.3
  circle w0.25: c-10.525,9.65 r0.125
  lines w0.2: -9.35,-9.35 9.35,-9.35 9.35,9.35 -9.35,9.35 -9.35,-9.35
Mechanical 13:
  circle w0.1: c-9.1,9.1 r0.5
  lines w0.1: -10,-10 10,-10 10,10 -10,10 -10,-10
Mechanical 15:
  lines w0.1: -0.5,0 0.5,0 ; 0,-0.5 0,0.5 ; -11.4,-11.4 11.4,-11.4 11.4,11.4 -11.4,11.4 -11.4,-11.4
3D body: height 2.7, standoff 0, extent -10,-10 10,10

## SQFP40P2200X2200-192L [mm] "Shrink QFP, 192-Leads, Body 20x20mm, Pitch 0.4mm, IPC High Density"
height 2.7
pads (192):
  oval 1.55x0.2 smd: 1(-10.525,9.4) 2(-10.525,9) 3(-10.525,8.6) 4(-10.525,8.2) 5(-10.525,7.8) 6(-10.525,7.4) 7(-10.525,7) 8(-10.525,6.6) 9(-10.525,6.2) 10(-10.525,5.8) 11(-10.525,5.4) 12(-10.525,5) 13(-10.525,4.6) 14(-10.525,4.2) 15(-10.525,3.8) 16(-10.525,3.4) 17(-10.525,3) 18(-10.525,2.6) 19(-10.525,2.2) 20(-10.525,1.8) 21(-10.525,1.4) 22(-10.525,1) 23(-10.525,0.6) 24(-10.525,0.2) 25(-10.525,-0.2) 26(-10.525,-0.6) 27(-10.525,-1) 28(-10.525,-1.4) 29(-10.525,-1.8) 30(-10.525,-2.2) 31(-10.525,-2.6) 32(-10.525,-3) 33(-10.525,-3.4) 34(-10.525,-3.8) 35(-10.525,-4.2) 36(-10.525,-4.6) 37(-10.525,-5) 38(-10.525,-5.4) 39(-10.525,-5.8) 40(-10.525,-6.2) 41(-10.525,-6.6) 42(-10.525,-7) 43(-10.525,-7.4) 44(-10.525,-7.8) 45(-10.525,-8.2) 46(-10.525,-8.6) 47(-10.525,-9) 48(-10.525,-9.4) 97(10.525,-9.4) 98(10.525,-9) 99(10.525,-8.6) 100(10.525,-8.2) 101(10.525,-7.8) 102(10.525,-7.4) 103(10.525,-7) 104(10.525,-6.6) 105(10.525,-6.2) 106(10.525,-5.8) 107(10.525,-5.4) 108(10.525,-5) 109(10.525,-4.6) 110(10.525,-4.2) 111(10.525,-3.8) 112(10.525,-3.4) 113(10.525,-3) 114(10.525,-2.6) 115(10.525,-2.2) 116(10.525,-1.8) 117(10.525,-1.4) 118(10.525,-1) 119(10.525,-0.6) 120(10.525,-0.2) 121(10.525,0.2) 122(10.525,0.6) 123(10.525,1) 124(10.525,1.4) 125(10.525,1.8) 126(10.525,2.2) 127(10.525,2.6) 128(10.525,3) 129(10.525,3.4) 130(10.525,3.8) 131(10.525,4.2) 132(10.525,4.6) 133(10.525,5) 134(10.525,5.4) 135(10.525,5.8) 136(10.525,6.2) 137(10.525,6.6) 138(10.525,7) 139(10.525,7.4) 140(10.525,7.8) 141(10.525,8.2) 142(10.525,8.6) 143(10.525,9) 144(10.525,9.4)
  oval 0.2x1.55 smd: 49(-9.4,-10.525) 50(-9,-10.525) 51(-8.6,-10.525) 52(-8.2,-10.525) 53(-7.8,-10.525) 54(-7.4,-10.525) 55(-7,-10.525) 56(-6.6,-10.525) 57(-6.2,-10.525) 58(-5.8,-10.525) 59(-5.4,-10.525) 60(-5,-10.525) 61(-4.6,-10.525) 62(-4.2,-10.525) 63(-3.8,-10.525) 64(-3.4,-10.525) 65(-3,-10.525) 66(-2.6,-10.525) 67(-2.2,-10.525) 68(-1.8,-10.525) 69(-1.4,-10.525) 70(-1,-10.525) 71(-0.6,-10.525) 72(-0.2,-10.525) 73(0.2,-10.525) 74(0.6,-10.525) 75(1,-10.525) 76(1.4,-10.525) 77(1.8,-10.525) 78(2.2,-10.525) 79(2.6,-10.525) 80(3,-10.525) 81(3.4,-10.525) 82(3.8,-10.525) 83(4.2,-10.525) 84(4.6,-10.525) 85(5,-10.525) 86(5.4,-10.525) 87(5.8,-10.525) 88(6.2,-10.525) 89(6.6,-10.525) 90(7,-10.525) 91(7.4,-10.525) 92(7.8,-10.525) 93(8.2,-10.525) 94(8.6,-10.525) 95(9,-10.525) 96(9.4,-10.525) 145(9.4,10.525) 146(9,10.525) 147(8.6,10.525) 148(8.2,10.525) 149(7.8,10.525) 150(7.4,10.525) 151(7,10.525) 152(6.6,10.525) 153(6.2,10.525) 154(5.8,10.525) 155(5.4,10.525) 156(5,10.525) 157(4.6,10.525) 158(4.2,10.525) 159(3.8,10.525) 160(3.4,10.525) 161(3,10.525) 162(2.6,10.525) 163(2.2,10.525) 164(1.8,10.525) 165(1.4,10.525) 166(1,10.525) 167(0.6,10.525) 168(0.2,10.525) 169(-0.2,10.525) 170(-0.6,10.525) 171(-1,10.525) 172(-1.4,10.525) 173(-1.8,10.525) 174(-2.2,10.525) 175(-2.6,10.525) 176(-3,10.525) 177(-3.4,10.525) 178(-3.8,10.525) 179(-4.2,10.525) 180(-4.6,10.525) 181(-5,10.525) 182(-5.4,10.525) 183(-5.8,10.525) 184(-6.2,10.525) 185(-6.6,10.525) 186(-7,10.525) 187(-7.4,10.525) 188(-7.8,10.525) 189(-8.2,10.525) 190(-8.6,10.525) 191(-9,10.525) 192(-9.4,10.525)
Top Overlay:
  circle w0.6: c-8.35,8.35 r0.3
  circle w0.25: c-10.525,10.05 r0.125
  lines w0.2: -9.35,-9.35 9.35,-9.35 9.35,9.35 -9.35,9.35 -9.35,-9.35
Mechanical 13:
  circle w0.1: c-9.1,9.1 r0.5
  lines w0.1: -10,-10 10,-10 10,10 -10,10 -10,-10
Mechanical 15:
  lines w0.1: -0.5,0 0.5,0 ; 0,-0.5 0,0.5 ; -11.4,-11.4 11.4,-11.4 11.4,11.4 -11.4,11.4 -11.4,-11.4
3D body: height 2.7, standoff 0, extent -10,-10 10,10

## SQFP40P2600X2600-224L [mm] "Shrink QFP, 224-Leads, Body 24x24mm, Pitch 0.4mm, IPC High Density"
height 3.2
pads (224):
  oval 1.55x0.2 smd: 1(-12.525,11) 2(-12.525,10.6) 3(-12.525,10.2) 4(-12.525,9.8) 5(-12.525,9.4) 6(-12.525,9) 7(-12.525,8.6) 8(-12.525,8.2) 9(-12.525,7.8) 10(-12.525,7.4) 11(-12.525,7) 12(-12.525,6.6) 13(-12.525,6.2) 14(-12.525,5.8) 15(-12.525,5.4) 16(-12.525,5) 17(-12.525,4.6) 18(-12.525,4.2) 19(-12.525,3.8) 20(-12.525,3.4) 21(-12.525,3) 22(-12.525,2.6) 23(-12.525,2.2) 24(-12.525,1.8) 25(-12.525,1.4) 26(-12.525,1) 27(-12.525,0.6) 28(-12.525,0.2) 29(-12.525,-0.2) 30(-12.525,-0.6) 31(-12.525,-1) 32(-12.525,-1.4) 33(-12.525,-1.8) 34(-12.525,-2.2) 35(-12.525,-2.6) 36(-12.525,-3) 37(-12.525,-3.4) 38(-12.525,-3.8) 39(-12.525,-4.2) 40(-12.525,-4.6) 41(-12.525,-5) 42(-12.525,-5.4) 43(-12.525,-5.8) 44(-12.525,-6.2) 45(-12.525,-6.6) 46(-12.525,-7) 47(-12.525,-7.4) 48(-12.525,-7.8) 49(-12.525,-8.2) 50(-12.525,-8.6) 51(-12.525,-9) 52(-12.525,-9.4) 53(-12.525,-9.8) 54(-12.525,-10.2) 55(-12.525,-10.6) 56(-12.525,-11) 113(12.525,-11) 114(12.525,-10.6) 115(12.525,-10.2) 116(12.525,-9.8) 117(12.525,-9.4) 118(12.525,-9) 119(12.525,-8.6) 120(12.525,-8.2) 121(12.525,-7.8) 122(12.525,-7.4) 123(12.525,-7) 124(12.525,-6.6) 125(12.525,-6.2) 126(12.525,-5.8) 127(12.525,-5.4) 128(12.525,-5) 129(12.525,-4.6) 130(12.525,-4.2) 131(12.525,-3.8) 132(12.525,-3.4) 133(12.525,-3) 134(12.525,-2.6) 135(12.525,-2.2) 136(12.525,-1.8) 137(12.525,-1.4) 138(12.525,-1) 139(12.525,-0.6) 140(12.525,-0.2) 141(12.525,0.2) 142(12.525,0.6) 143(12.525,1) 144(12.525,1.4) 145(12.525,1.8) 146(12.525,2.2) 147(12.525,2.6) 148(12.525,3) 149(12.525,3.4) 150(12.525,3.8) 151(12.525,4.2) 152(12.525,4.6) 153(12.525,5) 154(12.525,5.4) 155(12.525,5.8) 156(12.525,6.2) 157(12.525,6.6) 158(12.525,7) 159(12.525,7.4) 160(12.525,7.8) 161(12.525,8.2) 162(12.525,8.6) 163(12.525,9) 164(12.525,9.4) 165(12.525,9.8) 166(12.525,10.2) 167(12.525,10.6) 168(12.525,11)
  oval 0.2x1.55 smd: 57(-11,-12.525) 58(-10.6,-12.525) 59(-10.2,-12.525) 60(-9.8,-12.525) 61(-9.4,-12.525) 62(-9,-12.525) 63(-8.6,-12.525) 64(-8.2,-12.525) 65(-7.8,-12.525) 66(-7.4,-12.525) 67(-7,-12.525) 68(-6.6,-12.525) 69(-6.2,-12.525) 70(-5.8,-12.525) 71(-5.4,-12.525) 72(-5,-12.525) 73(-4.6,-12.525) 74(-4.2,-12.525) 75(-3.8,-12.525) 76(-3.4,-12.525) 77(-3,-12.525) 78(-2.6,-12.525) 79(-2.2,-12.525) 80(-1.8,-12.525) 81(-1.4,-12.525) 82(-1,-12.525) 83(-0.6,-12.525) 84(-0.2,-12.525) 85(0.2,-12.525) 86(0.6,-12.525) 87(1,-12.525) 88(1.4,-12.525) 89(1.8,-12.525) 90(2.2,-12.525) 91(2.6,-12.525) 92(3,-12.525) 93(3.4,-12.525) 94(3.8,-12.525) 95(4.2,-12.525) 96(4.6,-12.525) 97(5,-12.525) 98(5.4,-12.525) 99(5.8,-12.525) 100(6.2,-12.525) 101(6.6,-12.525) 102(7,-12.525) 103(7.4,-12.525) 104(7.8,-12.525) 105(8.2,-12.525) 106(8.6,-12.525) 107(9,-12.525) 108(9.4,-12.525) 109(9.8,-12.525) 110(10.2,-12.525) 111(10.6,-12.525) 112(11,-12.525) 169(11,12.525) 170(10.6,12.525) 171(10.2,12.525) 172(9.8,12.525) 173(9.4,12.525) 174(9,12.525) 175(8.6,12.525) 176(8.2,12.525) 177(7.8,12.525) 178(7.4,12.525) 179(7,12.525) 180(6.6,12.525) 181(6.2,12.525) 182(5.8,12.525) 183(5.4,12.525) 184(5,12.525) 185(4.6,12.525) 186(4.2,12.525) 187(3.8,12.525) 188(3.4,12.525) 189(3,12.525) 190(2.6,12.525) 191(2.2,12.525) 192(1.8,12.525) 193(1.4,12.525) 194(1,12.525) 195(0.6,12.525) 196(0.2,12.525) 197(-0.2,12.525) 198(-0.6,12.525) 199(-1,12.525) 200(-1.4,12.525) 201(-1.8,12.525) 202(-2.2,12.525) 203(-2.6,12.525) 204(-3,12.525) 205(-3.4,12.525) 206(-3.8,12.525) 207(-4.2,12.525) 208(-4.6,12.525) 209(-5,12.525) 210(-5.4,12.525) 211(-5.8,12.525) 212(-6.2,12.525) 213(-6.6,12.525) 214(-7,12.525) 215(-7.4,12.525) 216(-7.8,12.525) 217(-8.2,12.525) 218(-8.6,12.525) 219(-9,12.525) 220(-9.4,12.525) 221(-9.8,12.525) 222(-10.2,12.525) 223(-10.6,12.525) 224(-11,12.525)
Top Overlay:
  circle w0.6: c-10.35,10.35 r0.3
  circle w0.25: c-12.525,11.65 r0.125
  lines w0.2: -11.35,-11.35 11.35,-11.35 11.35,11.35 -11.35,11.35 -11.35,-11.35
Mechanical 13:
  circle w0.1: c-11.1,11.1 r0.5
  lines w0.1: -12,-12 12,-12 12,12 -12,12 -12,-12
Mechanical 15:
  lines w0.1: -0.5,0 0.5,0 ; 0,-0.5 0,0.5 ; -13.4,-13.4 13.4,-13.4 13.4,13.4 -13.4,13.4 -13.4,-13.4
3D body: height 3.2, standoff 0, extent -12,-12 12,12

## SQFP40P2600X2600-232L [mm] "Shrink QFP, 232-Leads, Body 24x24mm, Pitch 0.4mm, IPC High Density"
height 3.2
pads (232):
  oval 1.55x0.2 smd: 1(-12.525,11.4) 2(-12.525,11) 3(-12.525,10.6) 4(-12.525,10.2) 5(-12.525,9.8) 6(-12.525,9.4) 7(-12.525,9) 8(-12.525,8.6) 9(-12.525,8.2) 10(-12.525,7.8) 11(-12.525,7.4) 12(-12.525,7) 13(-12.525,6.6) 14(-12.525,6.2) 15(-12.525,5.8) 16(-12.525,5.4) 17(-12.525,5) 18(-12.525,4.6) 19(-12.525,4.2) 20(-12.525,3.8) 21(-12.525,3.4) 22(-12.525,3) 23(-12.525,2.6) 24(-12.525,2.2) 25(-12.525,1.8) 26(-12.525,1.4) 27(-12.525,1) 28(-12.525,0.6) 29(-12.525,0.2) 30(-12.525,-0.2) 31(-12.525,-0.6) 32(-12.525,-1) 33(-12.525,-1.4) 34(-12.525,-1.8) 35(-12.525,-2.2) 36(-12.525,-2.6) 37(-12.525,-3) 38(-12.525,-3.4) 39(-12.525,-3.8) 40(-12.525,-4.2) 41(-12.525,-4.6) 42(-12.525,-5) 43(-12.525,-5.4) 44(-12.525,-5.8) 45(-12.525,-6.2) 46(-12.525,-6.6) 47(-12.525,-7) 48(-12.525,-7.4) 49(-12.525,-7.8) 50(-12.525,-8.2) 51(-12.525,-8.6) 52(-12.525,-9) 53(-12.525,-9.4) 54(-12.525,-9.8) 55(-12.525,-10.2) 56(-12.525,-10.6) 57(-12.525,-11) 58(-12.525,-11.4) 117(12.525,-11.4) 118(12.525,-11) 119(12.525,-10.6) 120(12.525,-10.2) 121(12.525,-9.8) 122(12.525,-9.4) 123(12.525,-9) 124(12.525,-8.6) 125(12.525,-8.2) 126(12.525,-7.8) 127(12.525,-7.4) 128(12.525,-7) 129(12.525,-6.6) 130(12.525,-6.2) 131(12.525,-5.8) 132(12.525,-5.4) 133(12.525,-5) 134(12.525,-4.6) 135(12.525,-4.2) 136(12.525,-3.8) 137(12.525,-3.4) 138(12.525,-3) 139(12.525,-2.6) 140(12.525,-2.2) 141(12.525,-1.8) 142(12.525,-1.4) 143(12.525,-1) 144(12.525,-0.6) 145(12.525,-0.2) 146(12.525,0.2) 147(12.525,0.6) 148(12.525,1) 149(12.525,1.4) 150(12.525,1.8) 151(12.525,2.2) 152(12.525,2.6) 153(12.525,3) 154(12.525,3.4) 155(12.525,3.8) 156(12.525,4.2) 157(12.525,4.6) 158(12.525,5) 159(12.525,5.4) 160(12.525,5.8) 161(12.525,6.2) 162(12.525,6.6) 163(12.525,7) 164(12.525,7.4) 165(12.525,7.8) 166(12.525,8.2) 167(12.525,8.6) 168(12.525,9) 169(12.525,9.4) 170(12.525,9.8) 171(12.525,10.2) 172(12.525,10.6) 173(12.525,11) 174(12.525,11.4)
  oval 0.2x1.55 smd: 59(-11.4,-12.525) 60(-11,-12.525) 61(-10.6,-12.525) 62(-10.2,-12.525) 63(-9.8,-12.525) 64(-9.4,-12.525) 65(-9,-12.525) 66(-8.6,-12.525) 67(-8.2,-12.525) 68(-7.8,-12.525) 69(-7.4,-12.525) 70(-7,-12.525) 71(-6.6,-12.525) 72(-6.2,-12.525) 73(-5.8,-12.525) 74(-5.4,-12.525) 75(-5,-12.525) 76(-4.6,-12.525) 77(-4.2,-12.525) 78(-3.8,-12.525) 79(-3.4,-12.525) 80(-3,-12.525) 81(-2.6,-12.525) 82(-2.2,-12.525) 83(-1.8,-12.525) 84(-1.4,-12.525) 85(-1,-12.525) 86(-0.6,-12.525) 87(-0.2,-12.525) 88(0.2,-12.525) 89(0.6,-12.525) 90(1,-12.525) 91(1.4,-12.525) 92(1.8,-12.525) 93(2.2,-12.525) 94(2.6,-12.525) 95(3,-12.525) 96(3.4,-12.525) 97(3.8,-12.525) 98(4.2,-12.525) 99(4.6,-12.525) 100(5,-12.525) 101(5.4,-12.525) 102(5.8,-12.525) 103(6.2,-12.525) 104(6.6,-12.525) 105(7,-12.525) 106(7.4,-12.525) 107(7.8,-12.525) 108(8.2,-12.525) 109(8.6,-12.525) 110(9,-12.525) 111(9.4,-12.525) 112(9.8,-12.525) 113(10.2,-12.525) 114(10.6,-12.525) 115(11,-12.525) 116(11.4,-12.525) 175(11.4,12.525) 176(11,12.525) 177(10.6,12.525) 178(10.2,12.525) 179(9.8,12.525) 180(9.4,12.525) 181(9,12.525) 182(8.6,12.525) 183(8.2,12.525) 184(7.8,12.525) 185(7.4,12.525) 186(7,12.525) 187(6.6,12.525) 188(6.2,12.525) 189(5.8,12.525) 190(5.4,12.525) 191(5,12.525) 192(4.6,12.525) 193(4.2,12.525) 194(3.8,12.525) 195(3.4,12.525) 196(3,12.525) 197(2.6,12.525) 198(2.2,12.525) 199(1.8,12.525) 200(1.4,12.525) 201(1,12.525) 202(0.6,12.525) 203(0.2,12.525) 204(-0.2,12.525) 205(-0.6,12.525) 206(-1,12.525) 207(-1.4,12.525) 208(-1.8,12.525) 209(-2.2,12.525) 210(-2.6,12.525) 211(-3,12.525) 212(-3.4,12.525) 213(-3.8,12.525) 214(-4.2,12.525) 215(-4.6,12.525) 216(-5,12.525) 217(-5.4,12.525) 218(-5.8,12.525) 219(-6.2,12.525) 220(-6.6,12.525) 221(-7,12.525) 222(-7.4,12.525) 223(-7.8,12.525) 224(-8.2,12.525) 225(-8.6,12.525) 226(-9,12.525) 227(-9.4,12.525) 228(-9.8,12.525) 229(-10.2,12.525) 230(-10.6,12.525) 231(-11,12.525) 232(-11.4,12.525)
Top Overlay:
  circle w0.6: c-10.35,10.35 r0.3
  circle w0.25: c-12.525,12.05 r0.125
  lines w0.2: -11.35,-11.35 11.35,-11.35 11.35,11.35 -11.35,11.35 -11.35,-11.35
Mechanical 13:
  circle w0.1: c-11.1,11.1 r0.5
  lines w0.1: -12,-12 12,-12 12,12 -12,12 -12,-12
Mechanical 15:
  lines w0.1: -0.5,0 0.5,0 ; 0,-0.5 0,0.5 ; -13.4,-13.4 13.4,-13.4 13.4,13.4 -13.4,13.4 -13.4,-13.4
3D body: height 3.2, standoff 0, extent -12,-12 12,12